# Altium integrated library ER74R10KT.IntLib: 2 symbols
Pins are listed as number, name and electrical type; pins without a type are passive.

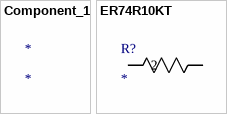
[diagram p0: symbols Component_1 to ER74R10KT]

## Component_1
designator *

## ER74R10KT
designator R?
No Description Available; Mfr_Name: TE Connectivity; Digi-Key_Part_Number_2: A105885TB-ND; Digi-Key_Part_Number_1: A105885CT-ND
footprint RES_ER74_TYCO_TYC
pins: 1, 2